# Altium schematic symbol library SCH - POWER - LINEAR VREG - TI TPS7A6201-Q1KTT.SchLib: 1 symbol
Pins are listed as number, name and electrical type; pins without a type are passive.

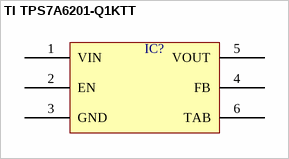
[diagram p0: symbol TI TPS7A6201-Q1KTT]

## TI TPS7A6201-Q1KTT
designator IC?  (value not drawn)
pins: 1 VIN, 2 EN, 3 GND, 4 FB, 5 VOUT, 6 TAB